# Altium schematic symbol library CON15X2.SchLib: 1 symbol
Pins are listed as number, name and electrical type; pins without a type are passive.

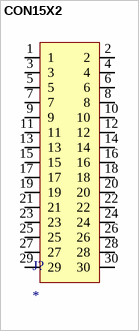
[diagram p0: symbol CON15X2]

## CON15X2
designator J?
ID: 0541323062; PDF: http://www.molex.com/pdm_docs/sd/541323062_sd.pdf; BUY_LINK: http://www.digikey.com/product-detail/en/0541323062/WM3951CT-ND/2421947; PRICE: 1.72000
footprint 0541323062
pins: 1, 2, 3, 4, 5, 6, 7, 8, 9, 10, 11, 12, 13, 14, 15, 16, 17, 18, 19, 20, 21, 22, 23, 24, 25, 26, 27, 28, 29, 30